# EAGLE library part RS485_XCVR_SN65HVD178X (library leaf)
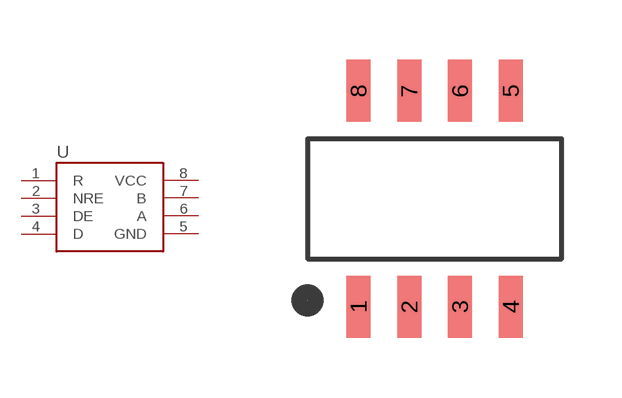
[diagram p4: symbol with the pads of SOIC_08_TI; footprint SOIC_08_TI]

Designator prefix U

## RS485_XCVR_SN65HVD178X  [SOIC_08_TI]
1  R
2  NRE
3  DE
4  D
5  GND
6  A
7  B
8  VCC

## Footprint SOIC_08_TI (pad centres in mm)
smd 0.6 x 1.55: 1 0,-2.7; 2 1.27,-2.7; 3 2.54,-2.7; 4 3.81,-2.7; 5 3.81,2.7; 6 2.54,2.7; 7 1.27,2.7; 8 0,2.7